# EAGLE library part 234-224 (library con-wago_234)
Serie 234, Klemmenleiste für Leiterplatten 2 Lötstifte/Pol / Series 234, PCB terminal strip 2 solder pins/pole Polzahl / Pole No.: 24 Rastermaß / Pitch: 2.5 mm Bemessungsspannung / Rated Voltage: 160 V Nennstrom / Nominal Current: 6 A Leiterquerschnitt / Conductor Size: 0.08 - 0.5 mm² Anschlusstechnik / Connection Technology: CAGE CLAMP® Lötstiftlänge: / Solder Pin Length: 4 mm Leitereinführung (zur Platine) / Conductor entry angle (to PCB): 90 ° Farbe / Color: grau / gray Stand: 01.01.2012. Die jeweils aktuellen Daten zu diesem Artikel finden Sie in unserem Produktkatalog, den Sie unter www.wago.com einsehen können. As of: 01/01/2012. Please find the newest data for this article in our product catalogue, which can be viewed under www.wago.com.
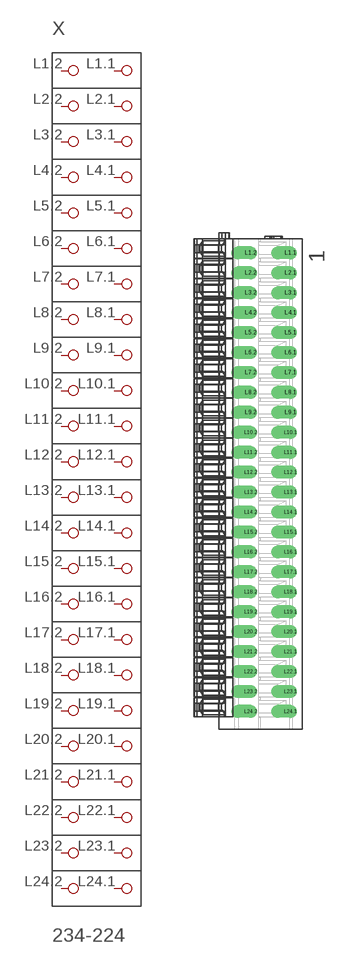
[diagram p10: symbol with the pads of P-234-224; footprint P-234-224]

Designator prefix X

## 234-224  [P-234-224]
L1.1  P1.1
L1.2  P1.2
L2.1  P2.1
L2.2  P2.2
L3.1  P3.1
L3.2  P3.2
L4.1  P4.1
L4.2  P4.2
L5.1  P5.1
L5.2  P5.2
L6.1  P6.1
L6.2  P6.2
L7.1  P7.1
L7.2  P7.2
L8.1  P8.1
L8.2  P8.2
L9.1  P9.1
L9.2  P9.2
L10.1  P10.1
L10.2  P10.2
L11.1  P11.1
L11.2  P11.2
L12.1  P12.1
L12.2  P12.2
L13.1  P13.1
L13.2  P13.2
L14.1  P14.1
L14.2  P14.2
L15.1  P15.1
L15.2  P15.2
L16.1  P16.1
L16.2  P16.2
L17.1  P17.1
L17.2  P17.2
L18.1  P18.1
L18.2  P18.2
L19.1  P19.1
L19.2  P19.2
L20.1  P20.1
L20.2  P20.2
L21.1  P21.1
L21.2  P21.2
L22.1  P22.1
L22.2  P22.2
L23.1  P23.1
L23.2  P23.2
L24.1  P24.1
L24.2  P24.2

## Footprint P-234-224 (pad centres in mm)
drill 1.1 offset: L1.1 5.303,28.6; L1.2 0.303,28.6; L2.1 5.303,26.1; L2.2 0.303,26.1; L3.1 5.303,23.6; L3.2 0.303,23.6; L4.1 5.303,21.1; L4.2 0.303,21.1; L5.1 5.303,18.6; L5.2 0.303,18.6; L6.1 5.303,16.1; L6.2 0.303,16.1; L7.1 5.303,13.6; L7.2 0.303,13.6; L8.1 5.303,11.1; L8.2 0.303,11.1; L9.1 5.303,8.6; L9.2 0.303,8.6; L10.1 5.303,6.1; L10.2 0.303,6.1; L11.1 5.303,3.6; L11.2 0.303,3.6; L12.1 5.303,1.1; L12.2 0.303,1.1; L13.1 5.303,-1.4; L13.2 0.303,-1.4; L14.1 5.303,-3.9; L14.2 0.303,-3.9; L15.1 5.303,-6.4; L15.2 0.303,-6.4; L16.1 5.303,-8.9; L16.2 0.303,-8.9; L17.1 5.303,-11.4; L17.2 0.303,-11.4; L18.1 5.303,-13.9; L18.2 0.303,-13.9; L19.1 5.303,-16.4; L19.2 0.303,-16.4; L20.1 5.303,-18.9; L20.2 0.303,-18.9; L21.1 5.303,-21.4; L21.2 0.303,-21.4; L22.1 5.303,-23.9; L22.2 0.303,-23.9; L23.1 5.303,-26.4; L23.2 0.303,-26.4; L24.1 5.303,-28.9; L24.2 0.303,-28.9